# Altium footprint library 制冷系统控制板.PCBLIB: 44 footprints (part 2 of 3)
Each footprint in its own frame and in the unit in brackets; x right, y up, seen from the top. Pads: shape width x height; smd on the part's side, far side on the other; paste and mask are expansions set on the pad; w line width, h text height; cw(c..) or ccw(c..) is an arc to the next point about the centre after c.
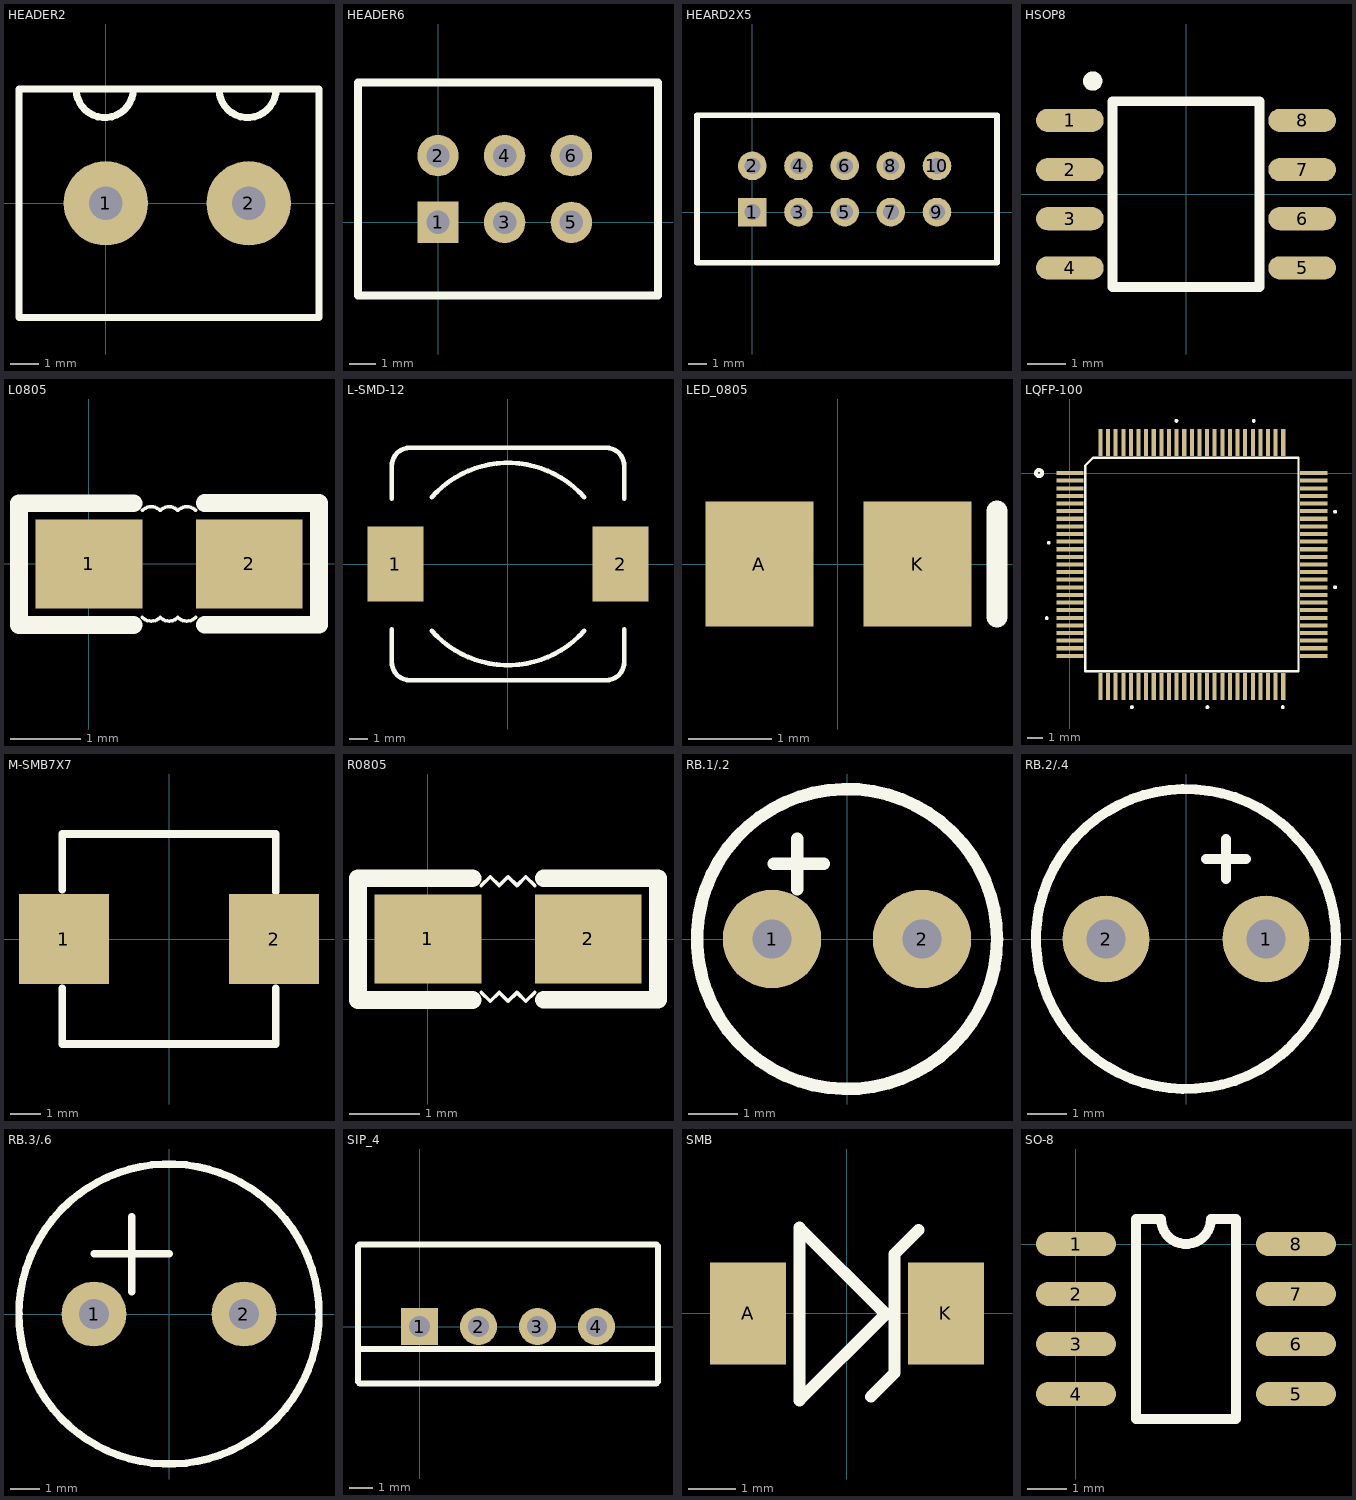
[diagram p1: the footprints below, top view; thin cyan lines are the x and y axes]

## HEADER2 [mm]
pads (2):
  round 3 hole 1.2: 1(-0.004,0) 2(5.076,0)
顶层丝印:
  lines w0.254: -1.06,4.064 ccw(c-0.044,4.064) 0.972,4.064 ; 4.02,4.064 ccw(c5.036,4.064) 6.052,4.064 ; -3.092,-4.064 -3.092,4.064 2.496,4.064 7.576,4.064 7.576,-4.064 -3.092,-4.064

## HEADER6 [mil]
pads (6):
  rect 62x62 hole 35: 1(0,0.01)
  round 62 hole 35: 2(0,100.01) 3(100,0.01) 4(100,100.01) 5(200,0.01) 6(200,100.01)
顶层丝印:
  lines w12: -120,-109.99 -120,210.01 330,210.01 330,-109.99 -120,-109.99

## HEARD2X5 [mil]
pads (10):
  rect 62x62 hole 35: 1(0,0.01)
  round 62 hole 35: 2(0,100.01) 3(100,0.01) 4(100,100.01) 5(200,0.01) 6(200,100.01) 7(300,0.01) 8(300,100.01) 9(400,0.01) 10(400,100.01)
顶层丝印:
  lines w12: -120,-109.99 530,-109.99 530,210.01 -120,210.01 -120,-109.99

## HSOP8 [mm]
pads (8):
  oval 1.75x0.6 smd: 1(-3,1.905) 2(-3,0.635) 3(-3,-0.635) 4(-3,-1.905) 5(3,-1.905) 6(3,-0.635) 7(3,0.635) 8(3,1.905)
顶层丝印:
  circle w0.25: c-2.411,2.921 r0.125
  lines w0.254: -1.9,-2.4 1.9,-2.4 1.9,2.4 -1.9,2.4 -1.9,-2.4

## L0805 [mil]
pads (2):
  rect 60x50 smd: 1(0,0.01) 2(90,0.01)
顶层丝印:
  lines w1.97: 30,-29.99 ccw(c35,-24.99) 40,-29.99 ccw(c45,-24.99) 50,-29.99 ccw(c55,-24.99) 60,-29.99 ; 30,30.01 cw(c35,25.01) 40,30.01 cw(c45,25.01) 50,30.01 cw(c55,25.01) 60,30.01
  lines w10: 25,-34.15 -39.19,-34.15 -39.19,34.1 25,34.1 ; 65,-34.07 129.13,-34.07 129.13,34.13 65,34.13

## L-SMD-12 [mm]
pads (2):
  rect 3x4 smd: 1(-6,0) 2(6,0)
顶层丝印:
  lines w0.254: -6.2,-3.475 -6.2,-5.23 ccw(c-5.23,-5.23) -5.23,-6.2 5.23,-6.2 ccw(c5.23,-5.23) 6.2,-5.23 6.2,-3.475 ; -6.2,3.475 -6.2,5.23 cw(c-5.23,5.23) -5.23,6.2 5.23,6.2 cw(c5.23,5.23) 6.2,5.23 6.2,3.475 ; -4.064,-3.556 ccw(c0,0) 4.064,-3.556 ; -4.064,3.556 cw(c0,0) 4.064,3.556

## LED_0805 [mm]
pads (2):
  rect 1.3x1.5 smd: A(-0.941,0) K(0.959,0)
顶层丝印:
  lines w0.254: 1.914,-0.635 1.914,0.635

## LQFP-100 [mil]
pads (100):
  rect 70.87x10.5 smd: 1(0,0.01)
  rect 70x10.5 smd: 2(0,-19.68) 3(0,-39.36) 4(0,-59.05) 5(0,-78.73) 6(0,-98.42) 7(0,-118.1) 8(0,-137.78) 9(0,-157.47) 10(0,-177.16) 11(0,-196.84) 12(0,-216.53) 13(0,-236.21) 14(0,-255.9) 15(0,-275.58) 16(0,-295.26) 17(0,-314.95) 18(0,-334.63) 19(0,-354.32) 20(0,-374) 21(0,-393.69) 22(0,-413.38) 23(0,-433.06) 24(0,-452.75) 25(0,-472.43) 51(629.92,-472.43) 52(629.92,-452.75) 53(629.92,-433.06) 54(629.92,-413.38) 55(629.92,-393.69) 56(629.92,-374) 57(629.92,-354.32) 58(629.92,-334.63) 59(629.92,-314.95) 60(629.92,-295.26) 61(629.92,-275.58) 62(629.92,-255.9) 63(629.92,-236.21) 64(629.92,-216.53) 65(629.92,-196.84) 66(629.92,-177.16) 67(629.92,-157.47) 68(629.92,-137.78) 69(629.92,-118.1) 70(629.92,-98.42) 71(629.92,-78.73) 72(629.92,-59.05) 73(629.92,-39.36) 74(629.92,-19.68) 75(629.92,0.01)
  rect 10.5x70 smd: 26(78.74,-551.17) 27(98.43,-551.17) 28(118.11,-551.17) 29(137.8,-551.17) 30(157.48,-551.17) 31(177.17,-551.17) 32(196.85,-551.17) 33(216.54,-551.17) 34(236.22,-551.17) 35(255.91,-551.17) 36(275.59,-551.17) 37(295.28,-551.17) 38(314.96,-551.17) 39(334.65,-551.17) 40(354.33,-551.17) 41(374.02,-551.17) 42(393.7,-551.17) 43(413.39,-551.17) 44(433.07,-551.17) 45(452.76,-551.17) 46(472.44,-551.17) 47(492.13,-551.17) 48(511.81,-551.17) 49(531.5,-551.17) 50(551.18,-551.17) 76(551.18,78.75) 77(531.5,78.75) 78(511.81,78.75) 79(492.13,78.75) 80(472.44,78.75) 81(452.76,78.75) 82(433.07,78.75) 83(413.39,78.75) 84(393.7,78.75) 85(374.02,78.75) 86(354.33,78.75) 87(334.65,78.75) 88(314.96,78.75) 89(295.28,78.75) 90(275.59,78.75) 91(255.91,78.75) 92(236.22,78.75) 93(216.54,78.75) 94(196.85,78.75) 95(177.17,78.75) 96(157.48,78.75) 97(137.8,78.75) 98(118.11,78.75) 99(98.43,78.75) 100(78.74,78.75)
顶层丝印:
  circle w5: c275,135.01 r2.5
  circle w5: c475,135.01 r2.5
  circle w5: c685,-99.99 r2.5
  circle w5: c685,-294.99 r2.5
  circle w5: c550,-604.99 r2.5
  circle w5: c355,-604.99 r2.5
  circle w5: c160,-604.99 r2.5
  circle w5: c-60,-374.99 r2.5
  circle w5: c-55,-179.99 r2.5
  circle w10: c-80,0.01 r7.87
  lines w6: 39.37,-511.8 39.37,19.38 59.37,39.38 590.55,39.38 590.55,-511.8 39.37,-511.8

## M-SMB7X7 [mm]
pads (2):
  rect 3x3 smd: 1(-3.5,0) 2(3.5,0)
顶层丝印:
  lines w0.254: -3.556,-3.5 -3.556,-1.651 ; -3.556,1.651 -3.556,3.5 3.556,3.5 3.556,1.58 ; -3.5,-3.5 3.5,-3.5 ; 3.556,-3.5 3.556,-1.651

## R0805 [mil]
pads (2):
  rect 60x50 smd: 1(0,0.01) 2(90,0.01)
顶层丝印:
  lines w1.97: 30,-29.99 35,-34.99 40,-29.99 45,-34.99 50,-29.99 55,-34.99 60,-29.99 ; 30,30.01 35,35.01 40,30.01 45,35.01 50,30.01 55,35.01 60,30.01
  lines w10: 25,-34.15 -39.19,-34.15 -39.19,34.1 25,34.1 ; 65,-34.07 129.13,-34.07 129.13,34.13 65,34.13

## RB.1/.2 [mm]
pads (2):
  round 2 hole 0.8: 1(-1.524,0) 2(1.524,0)
顶层丝印:
  circle w0.254: c0,0 r3.048
  lines w0.254: -1.492,1.527 -0.476,1.527 ; -1.016,1.016 -1.016,2.032

## RB.2/.4 [mm]
pads (2):
  round 2.2 hole 1: 1(2.032,0) 2(-2.032,0)
顶层丝印:
  circle w0.254: c0,0 r3.81
  lines w0.254: 0.508,2.032 1.524,2.032 ; 1.016,1.524 1.016,2.54

## RB.3/.6 [mm]
pads (2):
  round 2.2 hole 1: 1(-2.54,0) 2(2.54,0)
顶层丝印:
  circle w0.254: c0,0 r5.08
  lines w0.254: -2.54,2.032 0,2.032 ; -1.27,0.762 -1.27,3.302

## SIP_4 [mm]
pads (4):
  rect 1.6x1.6 hole 0.889: 1(0,0)
  round 1.6 hole 0.889: 2(2.54,0) 3(5.08,0) 4(7.62,0)
顶层丝印:
  lines w0.254: -2.65,-0.965 10.245,-0.965 ; -1.575,-2.46 9.119,-2.46 ; -1.549,-2.46 -2.569,-2.46 -2.65,-2.379 -2.65,-1.244 -2.65,1.321 -2.65,3.463 -2.573,3.54 -1.473,3.54 ; -1.524,3.54 9.119,3.54 10.201,3.54 10.27,3.472 10.27,1.931 10.27,-1.244 10.27,-2.379 10.189,-2.46 9.093,-2.46

## SMB [mm]
pads (2):
  rect 1.62x2.18 smd: A(-2.11,0) K(2.11,0)
顶层丝印:
  lines w0.254: 0.508,-1.778 1.016,-1.27 1.016,1.27 1.524,1.778 ; -1.016,-1.854 -1.016,1.829 0.826,-0.012 -1.016,-1.854

## SO-8 [mil]
pads (8):
  oval 80x24 smd: 1(0.24,0.14) 2(0.24,-49.86) 3(0.24,-99.86) 4(0.24,-149.86) 5(220.24,-149.86) 6(220.24,-99.86) 7(220.24,-49.86) 8(220.24,0.14)
顶层丝印:
  lines w10: 60.24,-174.86 160.24,-174.86 160.24,25.14 135.24,25.14 cw(c110.24,25.14) 85.24,25.14 60.24,25.14 60.24,-174.86